# EAGLE library part CFAF320240F (library parts)
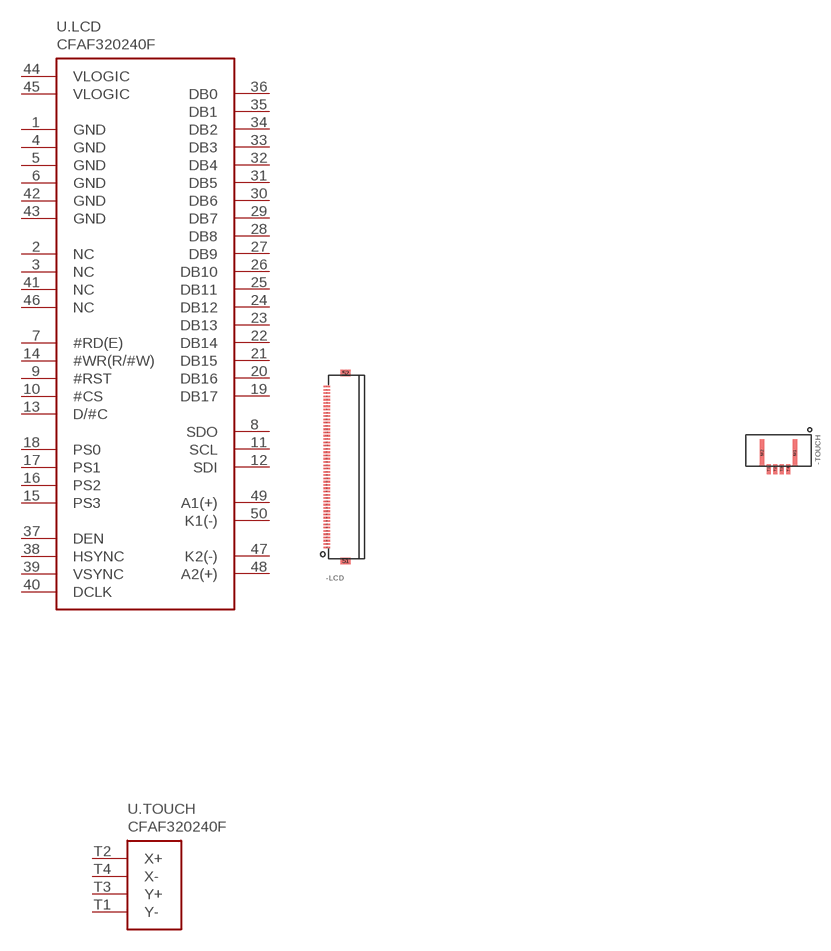
[diagram p9: symbol with the pads of CFAF320240F-035T-TS; footprint CFAF320240F-035T-TS]

Designator prefix U; gates .LCD=CFA32024-LCD .TOUCH=CFA32024-TOUCH

## CFAF320240F  [CFAF320240F-035T-TS]
1  .LCD:GND  pwr
2  .LCD:NC  nc
3  .LCD:NC  nc
4  .LCD:GND  pwr
5  .LCD:GND  pwr
6  .LCD:GND  pwr
7  .LCD:#RD(E)
8  .LCD:SDO
9  .LCD:#RST
10  .LCD:#CS
11  .LCD:SCL
12  .LCD:SDI
13  .LCD:D/#C
14  .LCD:#WR(R/#W)
15  .LCD:PS3
16  .LCD:PS2
17  .LCD:PS1
18  .LCD:PS0
19  .LCD:DB17
20  .LCD:DB16
21  .LCD:DB15
22  .LCD:DB14
23  .LCD:DB13
24  .LCD:DB12
25  .LCD:DB11
26  .LCD:DB10
27  .LCD:DB9
28  .LCD:DB8
29  .LCD:DB7
30  .LCD:DB6
31  .LCD:DB5
32  .LCD:DB4
33  .LCD:DB3
34  .LCD:DB2
35  .LCD:DB1
36  .LCD:DB0
37  .LCD:DEN
38  .LCD:HSYNC
39  .LCD:VSYNC
40  .LCD:DCLK
41  .LCD:NC  nc
42  .LCD:GND  pwr
43  .LCD:GND  pwr
44  .LCD:VLOGIC  pwr
45  .LCD:VLOGIC  pwr
46  .LCD:NC  nc
47  .LCD:K2(-)  pas
48  .LCD:A2(+)  pas
49  .LCD:A1(+)  pas
50  .LCD:K1(-)  pas
T1  .TOUCH:Y-  pas
T2  .TOUCH:X+  pas
T3  .TOUCH:Y+  pas
T4  .TOUCH:X-  pas

## Footprint CFAF320240F-035T-TS (pad centres in mm)
smd 1 x 0.25: 1 -13.3,60.58; 2 -13.3,60.08; 3 -13.3,59.58; 4 -13.3,59.08; 5 -13.3,58.58; 6 -13.3,58.08; 7 -13.3,57.58; 8 -13.3,57.08; 9 -13.3,56.58; 10 -13.3,56.08; 11 -13.3,55.58; 12 -13.3,55.08; 13 -13.3,54.58; 14 -13.3,54.08; 15 -13.3,53.58; 16 -13.3,53.08; 17 -13.3,52.58; 18 -13.3,52.08; 19 -13.3,51.58; 20 -13.3,51.08; 21 -13.3,50.58; 22 -13.3,50.08; 23 -13.3,49.58; 24 -13.3,49.08; 25 -13.3,48.58; 26 -13.3,48.08; 27 -13.3,47.58; 28 -13.3,47.08; 29 -13.3,46.58; 30 -13.3,46.08; 31 -13.3,45.58; 32 -13.3,45.08; 33 -13.3,44.58; 34 -13.3,44.08; 35 -13.3,43.58; 36 -13.3,43.08; 37 -13.3,42.58; 38 -13.3,42.08; 39 -13.3,41.58; 40 -13.3,41.08; 41 -13.3,40.58; 42 -13.3,40.08; 43 -13.3,39.58; 44 -13.3,39.08; 45 -13.3,38.58; 46 -13.3,38.08; 47 -13.3,37.58; 48 -13.3,37.08; 49 -13.3,36.58; 50 -13.3,36.08
smd 1.5 x 1: 51 -10.4,34.03; 52 -10.4,62.63
smd 0.7 x 4.2: M1 58.09,50.47; M2 53.09,50.47
smd 0.6 x 1.5: T1 54.09,47.97; T2 55.09,47.97; T3 56.09,47.97; T4 57.09,47.97